# Altium integrated library BZT52C3V3T-7.IntLib: 1 symbol
Pins are listed as number, name and electrical type; pins without a type are passive.

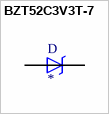
[diagram p0: symbol BZT52C3V3T-7]

## BZT52C3V3T-7
designator D
Zener Diode 3.3V 300mW Â±6% Surface Mount SOD-523; MP: BZT52C3V3T-7; MF: Diodes Inc.; Availability: Unavailable; Price: None; Value: *; SnapEDA_Link: https://www.snapeda.com/parts/BZT52C3V3T-7/Diodes%20Inc./view-part/523569/?ref=snap; Package: SOD-523 Diodes Inc.
footprint SODFL1608X65N
pins: A, C